# Altium footprint library AI-M62-CBS.PcbLib: 1 footprints
Each footprint in its own frame and in the unit in brackets; x right, y up, seen from the top. Pads: shape width x height; smd on the part's side, far side on the other; paste and mask are expansions set on the pad; w line width, h text height; cw(c..) or ccw(c..) is an arc to the next point about the centre after c.
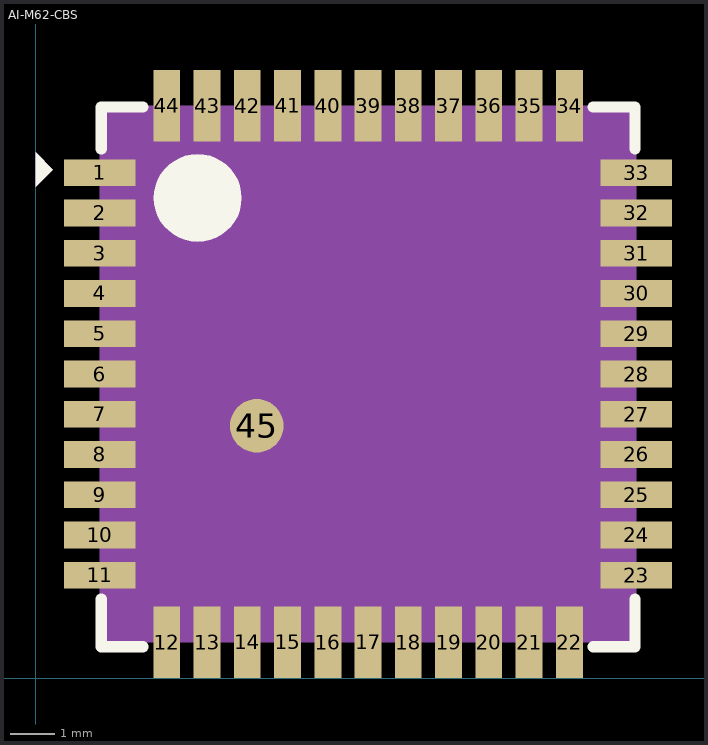
[diagram p0: the footprint, top view; thin cyan lines are the x and y axes]

## AI-M62-CBS [mil]
pads (45):
  rect 63x23.6 smd paste+0 mask+2: 1(56.3,444.9) 2(56.3,409.5) 3(56.3,374) 4(56.3,338.6) 5(56.3,303.2) 6(56.3,267.7) 7(56.3,232.3) 8(56.3,196.9) 9(56.3,161.4) 10(56.3,126) 11(56.3,90.6) 23(528.7,90.6) 24(528.7,126) 25(528.7,161.4) 26(528.7,196.9) 27(528.7,232.3) 28(528.7,267.7) 29(528.7,303.2) 30(528.7,338.6) 31(528.7,374) 32(528.7,409.5) 33(528.7,444.9)
  rect 23.6x63 smd paste+0 mask+2: 12(115.3,31.5) 13(150.8,31.5) 14(186.2,31.5) 15(221.6,31.5) 16(257.1,31.5) 17(292.5,31.5) 18(327.9,31.5) 19(363.4,31.5) 20(398.8,31.5) 21(434.2,31.5) 22(469.7,31.5) 34(469.7,503.9) 35(434.2,503.9) 36(398.8,503.9) 37(363.4,503.9) 38(327.9,503.9) 39(292.5,503.9) 40(257.1,503.9) 41(221.6,503.9) 42(186.2,503.9) 43(150.8,503.9) 44(115.3,503.9)
  round 47.2 smd paste+0 mask+2: 45(194.5,222.1)
Top Overlay:
  region: 104,422.7 104.4,428.2 105.5,433.6 107.4,438.7 110.1,443.6 113.4,448 117.3,451.8 121.7,455.1 126.5,457.8 131.6,459.7 137,460.9 142.5,461.3 148,460.9 153.4,459.7 158.5,457.8 163.3,455.1 167.7,451.8 171.6,448 174.9,443.6 177.6,438.7 179.5,433.6 180.6,428.2 181,422.7 180.6,417.2 179.5,411.9 177.6,406.7 174.9,401.9 171.6,397.5 167.7,393.6 163.3,390.3 158.5,387.7 153.4,385.7 148,384.6 142.5,384.2 137,384.6 131.6,385.7 126.5,387.7 121.7,390.3 117.3,393.6 113.4,397.5 110.1,401.9 107.4,406.7 105.5,411.9 104.4,417.2
  region: 0,432.7 0,462.7 15,447.7
  lines w10: 57.5,69.6 57.5,27.7 94.4,27.7 ; 57.5,465.8 57.5,502.7 94.4,502.7 92.5,502.7 ; 490.6,27.7 527.5,27.7 527.5,69.6 ; 490.6,502.7 527.5,502.7 527.5,465.8
Mechanical 5:
  region: 0,432.7 0,462.7 15,447.7
Mechanical 9:
  region: 56.3,31.5 56.3,503.9 528.7,503.9 528.7,31.5
Mechanical 10:
  region: 206.3,222 205.9,219.1 204.8,216.4 203.1,214 200.8,212.1 198.1,210.8 195.2,210.3 192.3,210.4 189.4,211.4 186.9,212.9 184.9,215.1 183.5,217.7 182.8,220.6 182.8,223.5 183.5,226.4 184.9,229 186.9,231.1 189.4,232.7 192.3,233.6 195.2,233.8 198.1,233.3 200.8,232 203.1,230.1 204.8,227.7 205.9,225
Mechanical 11:
  region: 57.5,503.9 57.1,503.1 56.3,502.8 55.4,503.1 55.1,503.9 55.4,504.8 56.3,505.1 57.1,504.8
Mechanical 12:
  drawing of 44 lines, arcs and shapes, not listed